# Altium footprint library 3.5mmJackfootprint.PcbLib: 1 footprints
Each footprint in its own frame and in the unit in brackets; x right, y up, seen from the top. Pads: shape width x height; smd on the part's side, far side on the other; paste and mask are expansions set on the pad; w line width, h text height; cw(c..) or ccw(c..) is an arc to the next point about the centre after c.
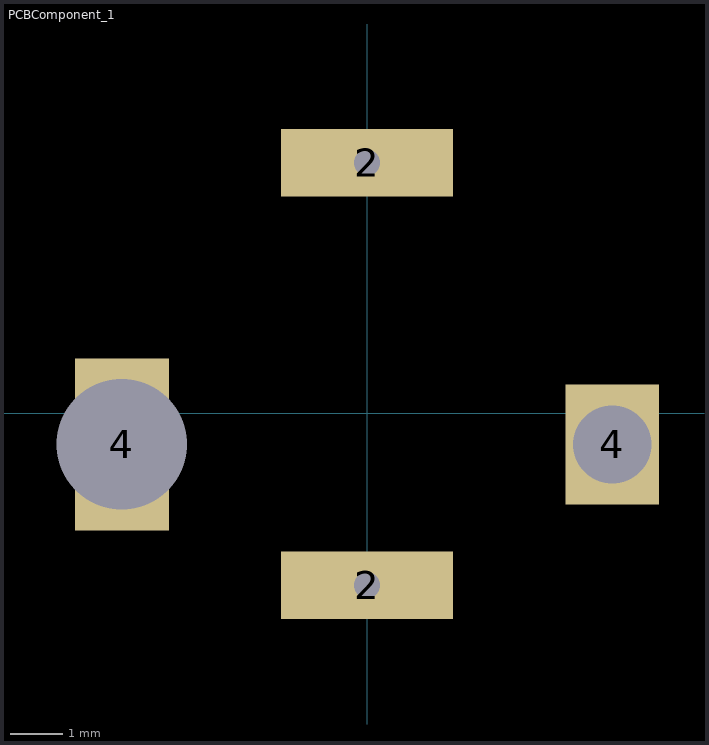
[diagram p0: the footprint, top view; thin cyan lines are the x and y axes]

## PCBComponent_1 [mm]
pads (4):
  rect 3.3x1.3 hole 0.5 square: 2(0,-3.3) 2(0,4.8)
  rect 1.8x3.3 hole 2.5 square: 4(-4.7,-0.6)
  rect 1.8x2.3 hole 1.5 square: 4(4.7,-0.6)
Drill Guide:
  circle w0.254: c0,0 r1.8